# Altium schematic symbol library Analogl.SCHLIB: 110 symbols
Pins are listed as number, name and electrical type; pins without a type are passive.

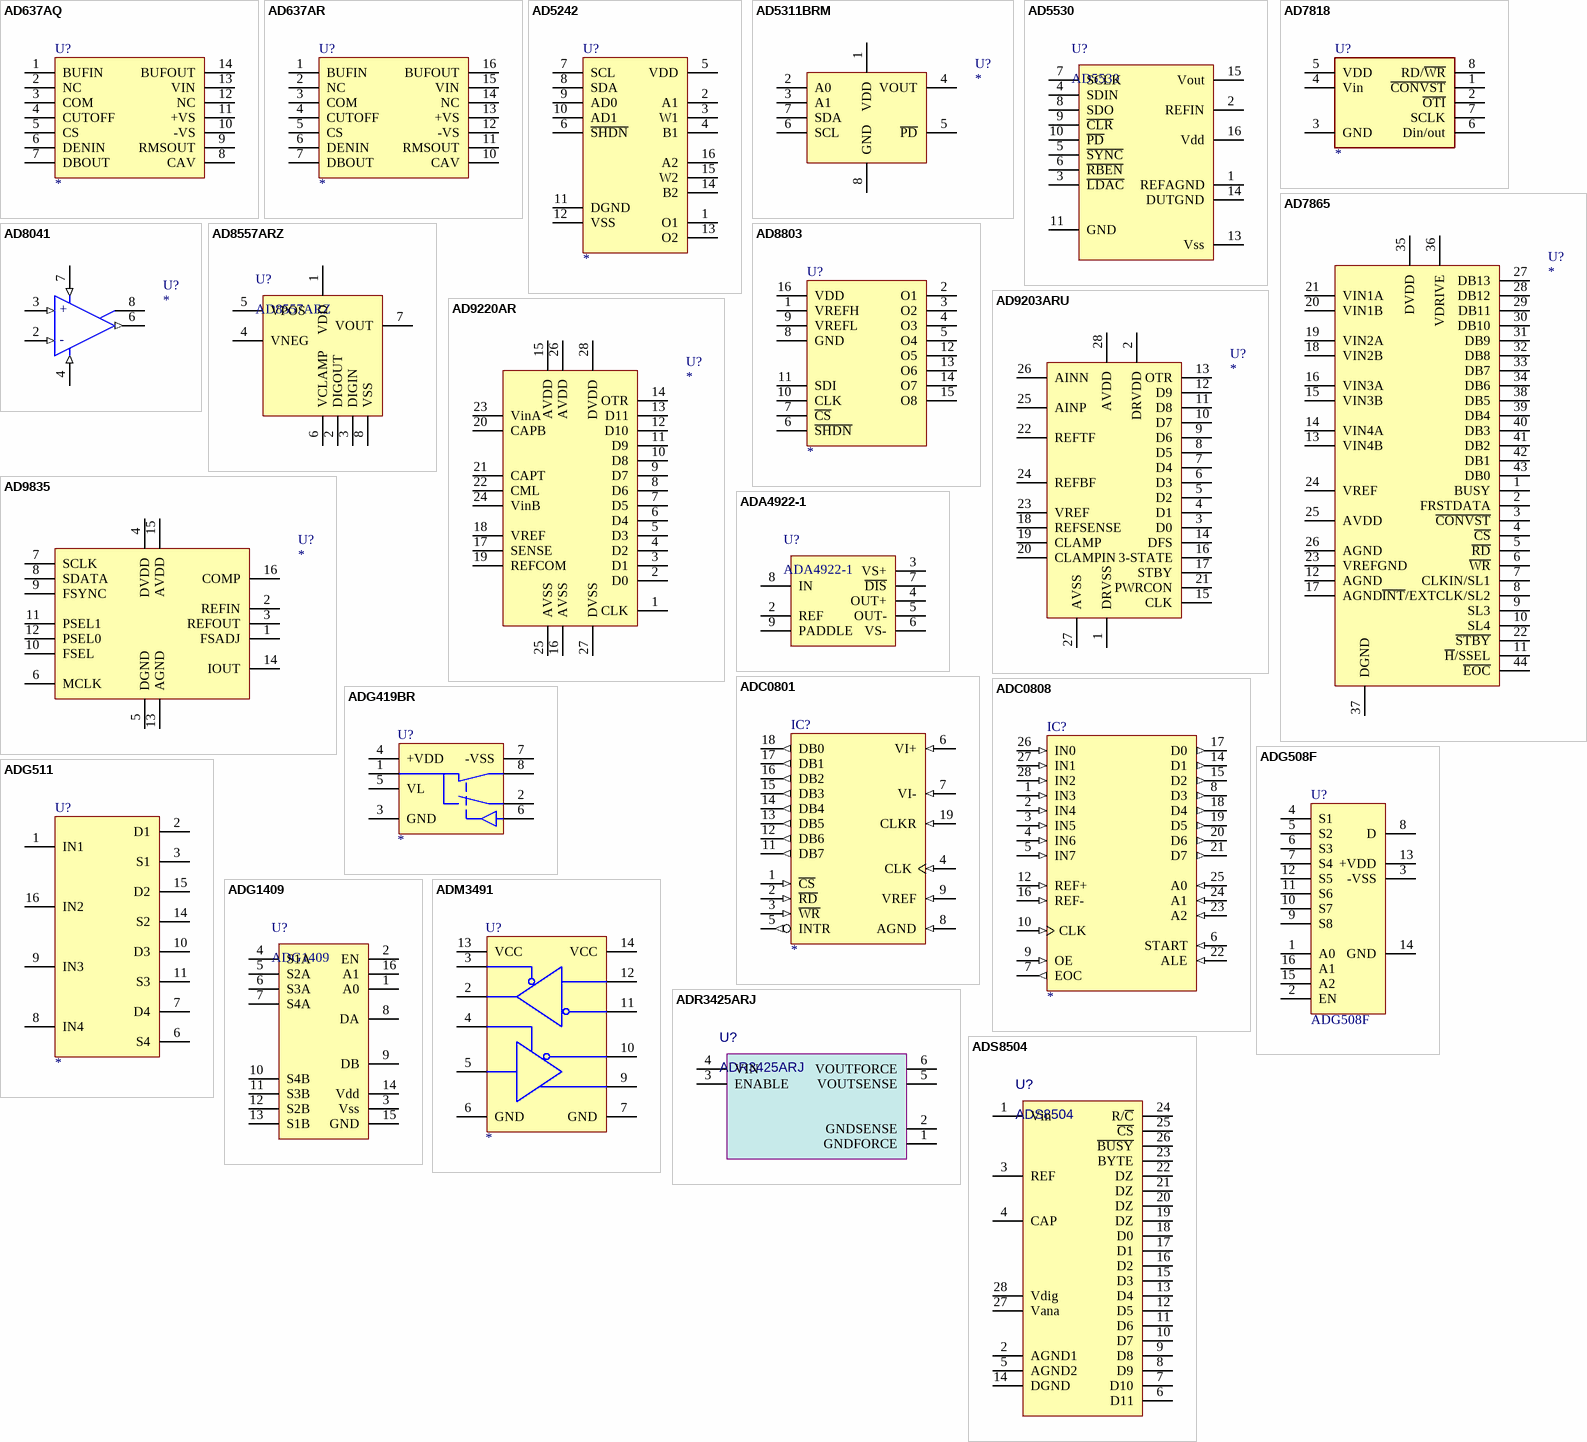
[diagram p0: symbols AD637AQ to ADS8504]

## AD637AQ
designator U?
footprint 14DIP300
pins: 1 BUFIN, 2 NC, 3 COM, 4 CUTOFF, 5 CS, 6 DENIN, 7 DBOUT, 8 CAV, 9 RMSOUT, 10 -VS, 11 +VS, 12 NC, 13 VIN, 14 BUFOUT

## AD637AR
designator U?
footprint 16SOIC300
pins: 1 BUFIN, 2 NC, 3 COM, 4 CUTOFF, 5 CS, 6 DENIN, 7 DBOUT, 10 CAV, 11 RMSOUT, 12 -VS, 13 +VS, 14 NC, 15 VIN, 16 BUFOUT

## AD5242
designator U?
footprint 16SOIC150
pins: 1 O1, 2 A1, 3 W1, 4 B1, 5 VDD, 6 ~{SHDN}, 7 SCL, 8 SDA, 9 AD0, 10 AD1, 11 DGND, 12 VSS, 13 O2, 14 B2, 15 W2, 16 A2

## AD5311BRM
designator U?
footprint 8USOIC
pins: 1 VDD, 2 A0, 3 A1, 4 VOUT, 5 ~{PD}, 6 SCL, 7 SDA, 8 GND

## AD5530
designator U?
Value: AD5530
pins: 1 REFAGND, 2 REFIN, 3 ~{LDAC}, 4 SDIN, 5 ~{SYNC}, 6 ~{RBEN}, 7 SCLK, 8 SDO, 9 ~{CLR}, 10 ~{PD}, 11 GND, 13 Vss, 14 DUTGND, 15 Vout, 16 Vdd

## AD7818
designator U?
footprint 8SOIC150
pins: 1 ~{CONVST}, 2 ~{OTI}, 3 GND, 4 Vin, 5 VDD, 6 Din/out, 7 SCLK, 8 RD/~{WR}

## AD7865
designator U?
footprint MS-026BCB
pins: 1 BUSY, 2 FRSTDATA, 3 ~{CONVST}, 4 ~{CS}, 5 ~{RD}, 6 ~{WR}, 7 CLKIN/SL1, 8 ~{INT}/EXTCLK/SL2, 9 SL3, 10 SL4, 11 ~{H}/SSEL, 12 AGND, 13 VIN4B, 14 VIN4A, 15 VIN3B, 16 VIN3A, 17 AGND, 18 VIN2B, 19 VIN2A, 20 VIN1B, 21 VIN1A, 22 ~{STBY}, 23 VREFGND, 24 VREF, 25 AVDD, 26 AGND, 27 DB13, 28 DB12, 29 DB11, 30 DB10, 31 DB9, 32 DB8, 33 DB7, 34 DB6, 35 DVDD, 36 VDRIVE, 37 DGND, 38 DB5, 39 DB4, 40 DB3, 41 DB2, 42 DB1, 43 DB0, 44 ~{EOC}

## AD8041
designator U?
footprint 8SOIC150
pins: 2 MINUS INPUT (in), 3 PLUS INPUT (in), 4 MINUS V (in), 6 OUTPUT (out), 7 PLUS V (in), 8 DISABLE
text: +; -

## AD8557ARZ
designator U?
Value: AD8557ARZ
pins: 1 VDD, 2 DIGOUT, 3 DIGIN, 4 VNEG, 5 VPOS, 6 VCLAMP, 7 VOUT, 8 VSS

## AD8803
designator U?
footprint 16DIP300
footprint 16SOIC150
pins: 1 VREFH, 2 O1, 3 O2, 4 O3, 5 O4, 6 ~{SHDN}, 7 ~{CS}, 8 GND, 9 VREFL, 10 CLK, 11 SDI, 12 O5, 13 O6, 14 O7, 15 O8, 16 VDD

## AD9203ARU
designator U?
footprint MO-153AE
pins: 1 DRVSS, 2 DRVDD, 3 D0, 4 D1, 5 D2, 6 D3, 7 D4, 8 D5, 9 D6, 10 D7, 11 D8, 12 D9, 13 OTR, 14 DFS, 15 CLK, 16 3-STATE, 17 STBY, 18 REFSENSE, 19 CLAMP, 20 CLAMPIN, 21 PWRCON, 22 REFTF, 23 VREF, 24 REFBF, 25 AINP, 26 AINN, 27 AVSS, 28 AVDD

## AD9220AR
designator U?
footprint 28SOIC300
pins: 1 CLK, 2 D0, 3 D1, 4 D2, 5 D3, 6 D4, 7 D5, 8 D6, 9 D7, 10 D8, 11 D9, 12 D10, 13 D11, 14 OTR, 15 AVDD, 16 AVSS, 17 SENSE, 18 VREF, 19 REFCOM, 20 CAPB, 21 CAPT, 22 CML, 23 VinA, 24 VinB, 25 AVSS, 26 AVDD, 27 DVSS, 28 DVDD

## AD9835
designator U?
pins: 1 FSADJ, 2 REFIN, 3 REFOUT, 4 DVDD, 5 DGND, 6 MCLK, 7 SCLK, 8 SDATA, 9 FSYNC, 10 FSEL, 11 PSEL1, 12 PSEL0, 13 AGND, 14 IOUT, 15 AVDD, 16 COMP

## ADA4922-1
designator U?
Value: ADA4922-1
pins: 2 REF, 3 VS+, 4 OUT+, 5 OUT-, 6 VS-, 7 ~{DIS}, 8 IN, 9 PADDLE

## ADC0801
designator IC?
pins: 1 ~{CS} (in), 2 ~{RD} (in), 3 ~{WR} (in), 4 CLK (in), 5 INTR (out), 6 VI+ (in), 7 VI- (in), 8 AGND (in), 9 VREF (in), 10 GND (power) hidden to GND, 11 DB7 (out), 12 DB6 (out), 13 DB5 (out), 14 DB4 (out), 15 DB3 (out), 16 DB2 (out), 17 DB1 (out), 18 DB0 (out), 19 CLKR (in), 20 VCC (power) hidden to VCC

## ADC0808
designator IC?
pins: 1 IN3 (in), 2 IN4 (in), 3 IN5 (in), 4 IN6 (in), 5 IN7 (in), 6 START (in), 7 EOC (out), 8 D3 (out), 9 OE (in), 10 CLK (in), 11 VCC (power) hidden to VCC, 12 REF+ (in), 13 GND (power) hidden to GND, 14 D1 (out), 15 D2 (out), 16 REF- (in), 17 D0 (out), 18 D4 (out), 19 D5 (out), 20 D6 (out), 21 D7 (out), 22 ALE (in), 23 A2 (in), 24 A1 (in), 25 A0 (in), 26 IN0 (in), 27 IN1 (in), 28 IN2 (in)

## ADG419BR
designator U?
footprint 8SOIC150
pins: 1 D, 2 S1, 3 GND, 4 +VDD, 5 VL, 6 IN, 7 -VSS, 8 S2

## ADG508F
designator U?
Value: ADG508F
pins: 1 A0, 2 EN, 3 -VSS, 4 S1, 5 S2, 6 S3, 7 S4, 8 D, 9 S8, 10 S7, 11 S6, 12 S5, 13 +VDD, 14 GND, 15 A2, 16 A1

## ADG511
designator U?
footprint 16DIP300
footprint 16SOIC150
pins: 1 IN1, 2 D1, 3 S1, 6 S4, 7 D4, 8 IN4, 9 IN3, 10 D3, 11 S3, 14 S2, 15 D2, 16 IN2

## ADG1409
designator U?
Value: ADG1409
pins: 1 A0, 2 EN, 3 Vss, 4 S1A, 5 S2A, 6 S3A, 7 S4A, 8 DA, 9 DB, 10 S4B, 11 S3B, 12 S2B, 13 S1B, 14 Vdd, 15 GND, 16 A1

## ADM3491
designator U?
footprint 14SOIC150
pins: 2 RCVOUT, 3 RCVEN, 4 DRVEN, 5 DRVIN, 6 GND, 7 GND, 9 DRVOUTP, 10 DRVOUTM, 11 RCVINM, 12 RCVINP, 13 VCC, 14 VCC

## ADR3425ARJ
designator U?
Value: ADR3425ARJ
pins: 1 GNDFORCE, 2 GNDSENSE, 3 ENABLE, 4 VIN, 5 VOUTSENSE, 6 VOUTFORCE

## ADS8504
designator U?
Value: ADS8504
pins: 1 Vin, 2 AGND1, 3 REF, 4 CAP, 5 AGND2, 6 D11, 7 D10, 8 D9, 9 D8, 10 D7, 11 D6, 12 D5, 13 D4, 14 DGND, 15 D3, 16 D2, 17 D1, 18 D0, 19 DZ, 20 DZ, 21 DZ, 22 DZ, 23 BYTE, 24 R/~{C}, 25 ~{CS}, 26 ~{BUSY}, 27 Vana, 28 Vdig

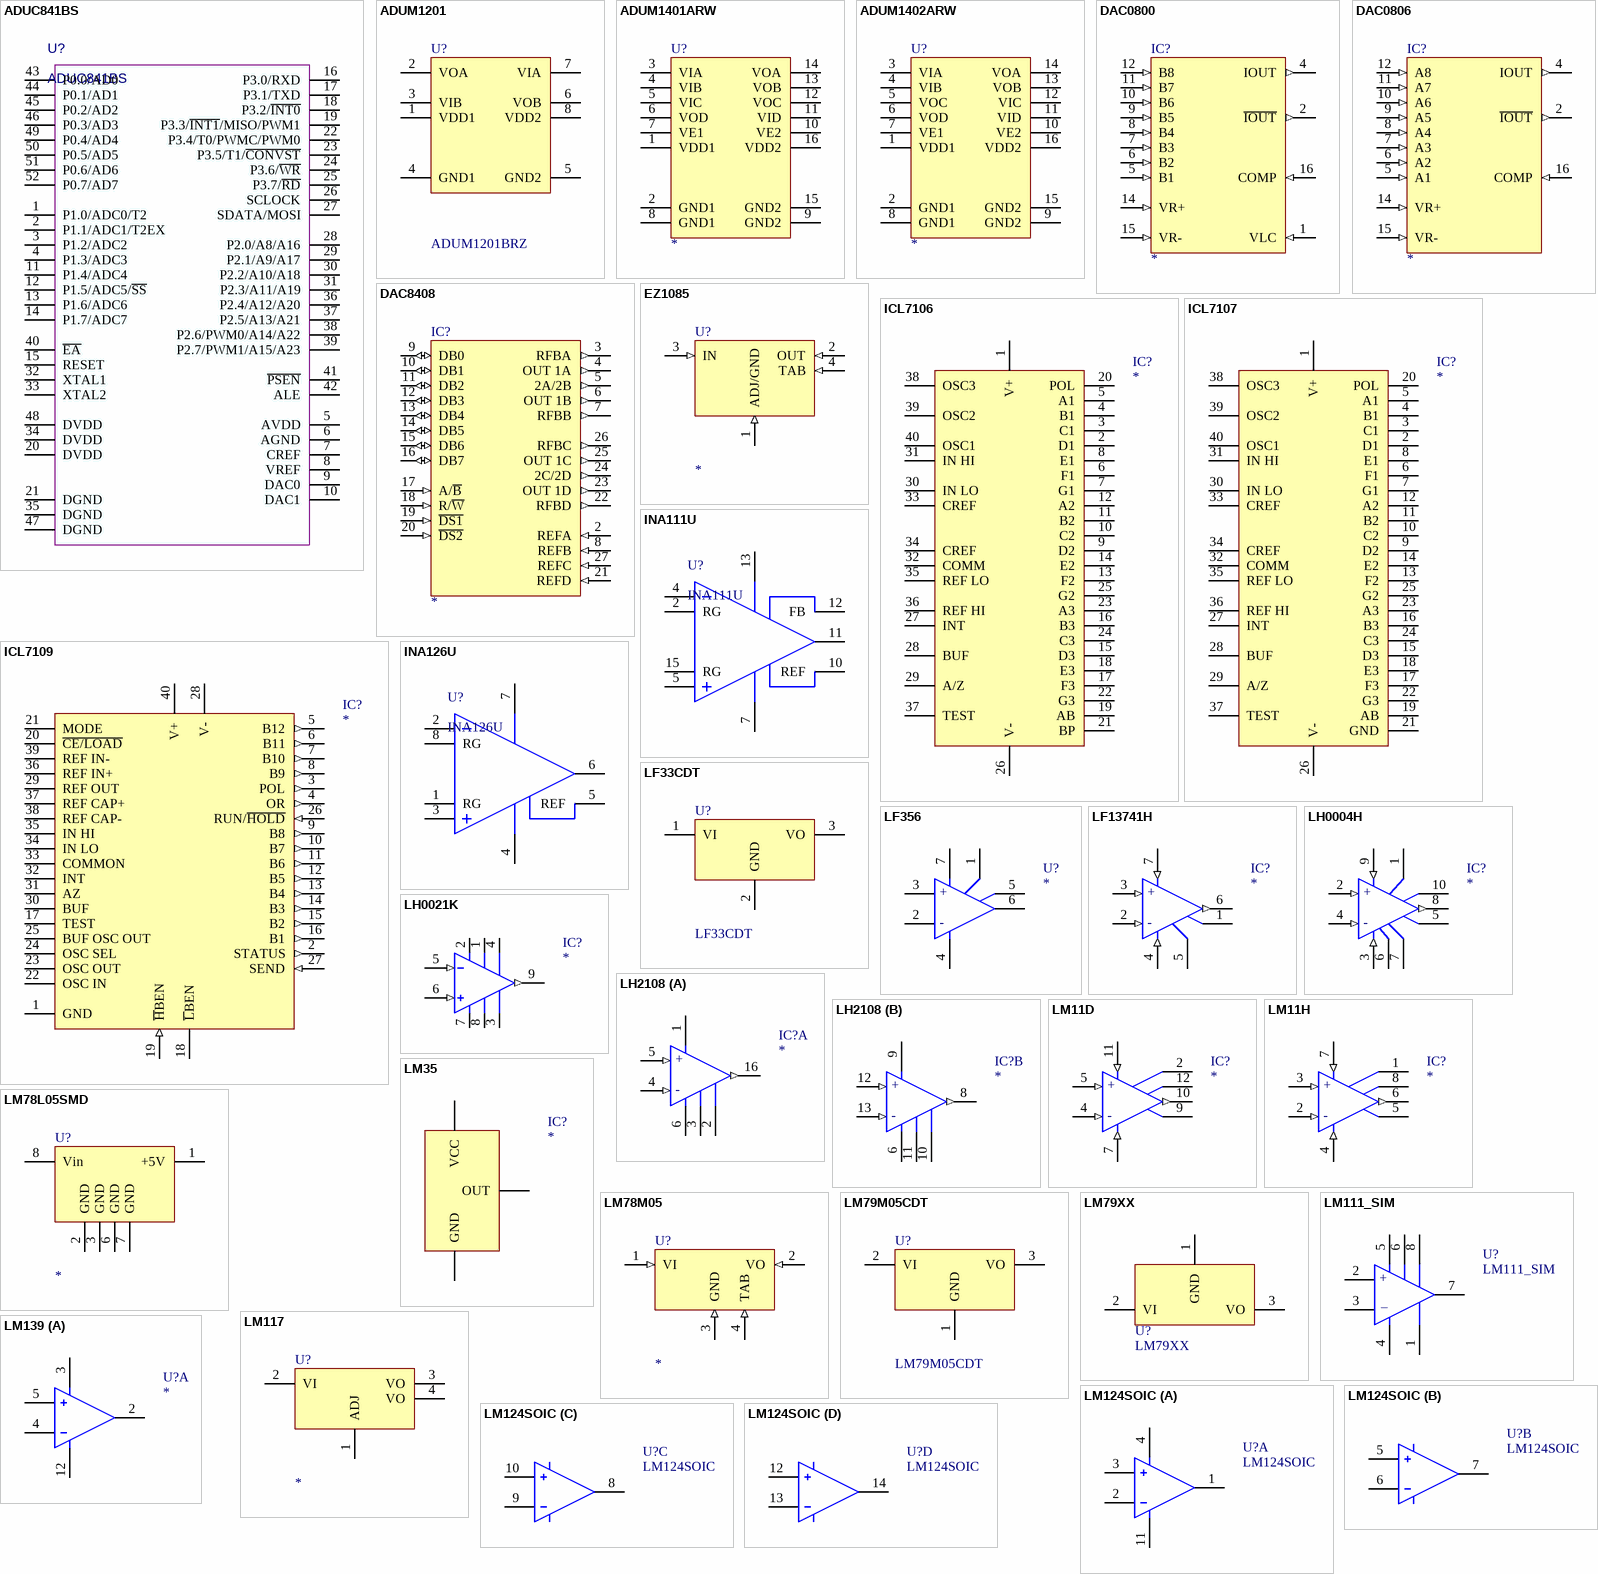
[diagram p1: symbols ADUC841BS to LM139]

## ADUC841BS
designator U?
Value: ADUC841BS
pins: 1 P1.0/ADC0/T2, 2 P1.1/ADC1/T2EX, 3 P1.2/ADC2, 4 P1.3/ADC3, 5 AVDD, 6 AGND, 7 CREF, 8 VREF, 9 DAC0, 10 DAC1, 11 P1.4/ADC4, 12 P1.5/ADC5/~{SS}, 13 P1.6/ADC6, 14 P1.7/ADC7, 15 RESET, 16 P3.0/RXD, 17 P3.1/TXD, 18 P3.2/~{INT0}, 19 P3.3/~{INT1}/MISO/PWM1, 20 DVDD, 21 DGND, 22 P3.4/T0/PWMC/PWM0, 23 P3.5/T1/~{CONVST}, 24 P3.6/~{WR}, 25 P3.7/~{RD}, 26 SCLOCK, 27 SDATA/MOSI, 28 P2.0/A8/A16, 29 P2.1/A9/A17, 30 P2.2/A10/A18, 31 P2.3/A11/A19, 32 XTAL1, 33 XTAL2, 34 DVDD, 35 DGND, 36 P2.4/A12/A20, 37 P2.5/A13/A21, 38 P2.6/PWM0/A14/A22, 39 P2.7/PWM1/A15/A23, 40 ~{EA}, 41 ~{PSEN}, 42 ALE, 43 P0.0/AD0, 44 P0.1/AD1, 45 P0.2/AD2, 46 P0.3/AD3, 47 DGND, 48 DVDD, 49 P0.4/AD4, 50 P0.5/AD5, 51 P0.6/AD6, 52 P0.7/AD7

## ADUM1201
designator U?, comment ADUM1201BRZ
Value: ADUM1201BRZ
pins: 1 VDD1, 2 VOA, 3 VIB, 4 GND1, 5 GND2, 6 VOB, 7 VIA, 8 VDD2

## ADUM1401ARW
designator U?
footprint 16SOIC300
pins: 1 VDD1, 2 GND1, 3 VIA, 4 VIB, 5 VIC, 6 VOD, 7 VE1, 8 GND1, 9 GND2, 10 VE2, 11 VID, 12 VOC, 13 VOB, 14 VOA, 15 GND2, 16 VDD2

## ADUM1402ARW
designator U?
footprint 16SOIC300
pins: 1 VDD1, 2 GND1, 3 VIA, 4 VIB, 5 VOC, 6 VOD, 7 VE1, 8 GND1, 9 GND2, 10 VE2, 11 VID, 12 VIC, 13 VOB, 14 VOA, 15 GND2, 16 VDD2

## DAC0800
designator IC?
pins: 1 VLC (in), 2 ~{IOUT} (out), 3 V- (power) hidden to V-, 4 IOUT (out), 5 B1 (in), 6 B2 (in), 7 B3 (in), 8 B4 (in), 9 B5 (in), 10 B6 (in), 11 B7 (in), 12 B8 (in), 13 V+ (power) hidden to V+, 14 VR+ (in), 15 VR- (in), 16 COMP (in)

## DAC0806
designator IC?
pins: 2 ~{IOUT} (out), 3 V- (power) hidden to V-, 4 IOUT (out), 5 A1 (in), 6 A2 (in), 7 A3 (in), 8 A4 (in), 9 A5 (in), 10 A6 (in), 11 A7 (in), 12 A8 (in), 13 V+ (power) hidden to V+, 14 VR+ (in), 15 VR- (in), 16 COMP (in)

## DAC8408
designator IC?
pins: 1 VDD (power) hidden to VDD, 2 REFA (in), 3 RFBA (out), 4 OUT 1A (out), 5 2A/2B (out), 6 OUT 1B (out), 7 RFBB (out), 8 REFB (in), 9 DB0 (io), 10 DB1 (io), 11 DB2 (io), 12 DB3 (io), 13 DB4 (io), 14 DB5 (io), 15 DB6 (io), 16 DB7 (io), 17 A/~{B} (in), 18 R/~{W} (in), 19 ~{DS1} (in), 20 ~{DS2} (in), 21 REFD (in), 22 RFBD (out), 23 OUT 1D (out), 24 2C/2D (out), 25 OUT 1C (out), 26 RFBC (out), 27 REFC (in), 28 GND (power) hidden to GND

## EZ1085
designator U?
footprint TO-220H
pins: 1 ADJ/GND (in), 2 OUT (in), 3 IN (in), 4 TAB (in)

## ICL7106
designator IC?
pins: 1 V+, 2 D1, 3 C1, 4 B1, 5 A1, 6 F1, 7 G1, 8 E1, 9 D2, 10 C2, 11 B2, 12 A2, 13 F2, 14 E2, 15 D3, 16 B3, 17 F3, 18 E3, 19 AB, 20 POL, 21 BP, 22 G3, 23 A3, 24 C3, 25 G2, 26 V-, 27 INT, 28 BUF, 29 A/Z, 30 IN LO, 31 IN HI, 32 COMM, 33 CREF, 34 CREF, 35 REF LO, 36 REF HI, 37 TEST, 38 OSC3, 39 OSC2, 40 OSC1

## ICL7107
designator IC?
pins: 1 V+, 2 D1, 3 C1, 4 B1, 5 A1, 6 F1, 7 G1, 8 E1, 9 D2, 10 C2, 11 B2, 12 A2, 13 F2, 14 E2, 15 D3, 16 B3, 17 F3, 18 E3, 19 AB, 20 POL, 21 GND, 22 G3, 23 A3, 24 C3, 25 G2, 26 V-, 27 INT, 28 BUF, 29 A/Z, 30 IN LO, 31 IN HI, 32 COMM, 33 CREF, 34 CREF, 35 REF LO, 36 REF HI, 37 TEST, 38 OSC3, 39 OSC2, 40 OSC1

## ICL7109
designator IC?
pins: 1 GND, 2 STATUS (out), 3 POL (out), 4 OR (out), 5 B12 (out), 6 B11 (out), 7 B10 (out), 8 B9 (out), 9 B8 (out), 10 B7 (out), 11 B6 (out), 12 B5 (out), 13 B4 (out), 14 B3 (out), 15 B2 (out), 16 B1 (out), 17 TEST, 18 ~{L}BEN, 19 ~{H}BEN (in), 20 ~{CE/LOAD}, 21 MODE, 22 OSC IN, 23 OSC OUT, 24 OSC SEL, 25 BUF OSC OUT, 26 RUN/~{HOLD} (in), 27 SEND (in), 28 V-, 29 REF OUT, 30 BUF, 31 AZ, 32 INT, 33 COMMON, 34 IN LO, 35 IN HI, 36 REF IN+, 37 REF CAP+, 38 REF CAP-, 39 REF IN-, 40 V+

## INA111U
designator U?
Value: INA111U
pins: 2 RG, 4 Vin-, 5 Vin+, 7 Vs-, 10 REF, 11 Vout, 12 FB, 13 Vs+, 15 RG

## INA126U
designator U?
Value: INA126U
pins: 1 RG, 2 Vin-, 3 Vin+, 4 Vs-, 5 REF, 6 Vout, 7 Vs+, 8 RG

## LF33CDT
designator U?
3.3V Voltage Regulator; Mfr_Typ1: *; Mfr_Typ2: *; Mfr_Typ3: *; Price1: *; Price2: *; Price3: *; Reference1: *; Reference2: *; Reference3: *; Supplier1: *; Supplier2: *; Supplier3: *; Value: LF33CDT
footprint TO-252
pins: 1 VI, 2 GND, 3 VO

## LF356
designator U?
footprint 8SOIC150
simulation model LF356/NS (//////////////////////////////////////////////////////////)
pins: 1 BALANCE 1, 2 MINUS INPUT, 3 PLUS INPUT, 4 MINUS V, 5 BALANCE 2, 6 OUTPUT, 7 PLUS V
1 alternate drawing of the same symbol
text: +; -

## LF13741H
designator IC?
pins: 1 BALANCE 1, 2 MINUS INPUT (in), 3 PLUS INPUT (in), 4 MINUS V (in), 5 BALANCE 2, 6 OUTPUT (out), 7 PLUS V (in)
text: +; -

## LH0004H
designator IC?
pins: 1 COMPENSATION 1, 2 PLUS INPUT (in), 3 MINUS V (in), 4 MINUS INPUT (in), 5 COMPENSATION 2, 6 BIAS 1, 7 BIAS 2, 8 OUTPUT (out), 9 PLUS V (in), 10 COMPENSATION 3
text: +; -

## LH0021K
designator IC?
pins: 1 SC+, 2 V+, 3 GND, 4 COMP, 5 INV INPUT (in), 6 NON-INV INPUT (in), 7 V-, 8 SC-, 9 OUTPUT (out)

## LH2108
designator IC?
pins on every part: 6 MINUS V
part A pins: 1 PLUS V, 2 ON2, 3 ON1, 4 MINUS INPUT (in), 5 PLUS INPUT (in), 16 OUTPUT (out)
part B pins: 8 OUTPUT (out), 9 PLUS V, 10 ON2, 11 ON1, 12 PLUS INPUT (in), 13 MINUS INPUT (in)
part A text: +; -
part B text: +; -

## LM11D
designator IC?
pins: 2 BALANCE 1, 4 MINUS INPUT (in), 5 PLUS INPUT (in), 7 MINUS V (in), 9 COMPENSATION 1, 10 OUTPUT (out), 11 PLUS V (in), 12 BALANCE 2
text: +; -

## LM11H
designator IC?
pins: 1 BALANCE 1, 2 MINUS INPUT (in), 3 PLUS INPUT (in), 4 MINUS V (in), 5 COMPENSATION 1, 6 OUTPUT (out), 7 PLUS V (in), 8 BALANCE 2
text: +; -

## LM35
designator IC?
pins: GND, OUT, VCC

## LM78L05SMD
designator U?
3 terminal Voltage stabilizator +5V
footprint 8SOIC150
pins: 1 +5V, 2 GND, 3 GND, 6 GND, 7 GND, 8 Vin

## LM78M05
designator U?
footprint DPAK
pins: 1 VI (in), 2 VO (in), 3 GND (in), 4 TAB (in)

## LM79M05CDT
designator U?
Value: LM79M05CDT
pins: 1 GND, 2 VI, 3 VO

## LM79XX
designator U?
Value: LM79XX
pins: 1 GND, 2 VI, 3 VO

## LM111_SIM
designator U?
Value: LM111_SIM
footprint 8SOIC150
simulation model LM111/NS (LM111 Voltage Comparator)
pins: 1 GROUND, 2 IN+, 3 IN-, 4 V-, 5 BALANCE, 6 BAL/STRB, 7 OUTPUT, 8 V+
1 alternate drawing of the same symbol
text: +; _

## LM117
designator U?
pins: 1 ADJ, 2 VI, 3 VO, 4 VO

## LM124SOIC
designator U?
Value: LM124SOIC
footprint 14SOIC150
part A pins: 1 OUTPUT, 2 MINUS INPUT, 3 PLUS INPUT, 4 PLUS V, 11 MINUS V
part B pins: 5 PLUS INPUT, 6 MINUS INPUT, 7 OUTPUT
part C pins: 8 OUTPUT, 9 MINUS INPUT, 10 PLUS INPUT
part D pins: 12 PLUS INPUT, 13 MINUS INPUT, 14 OUTPUT
1 alternate drawing of the same symbol

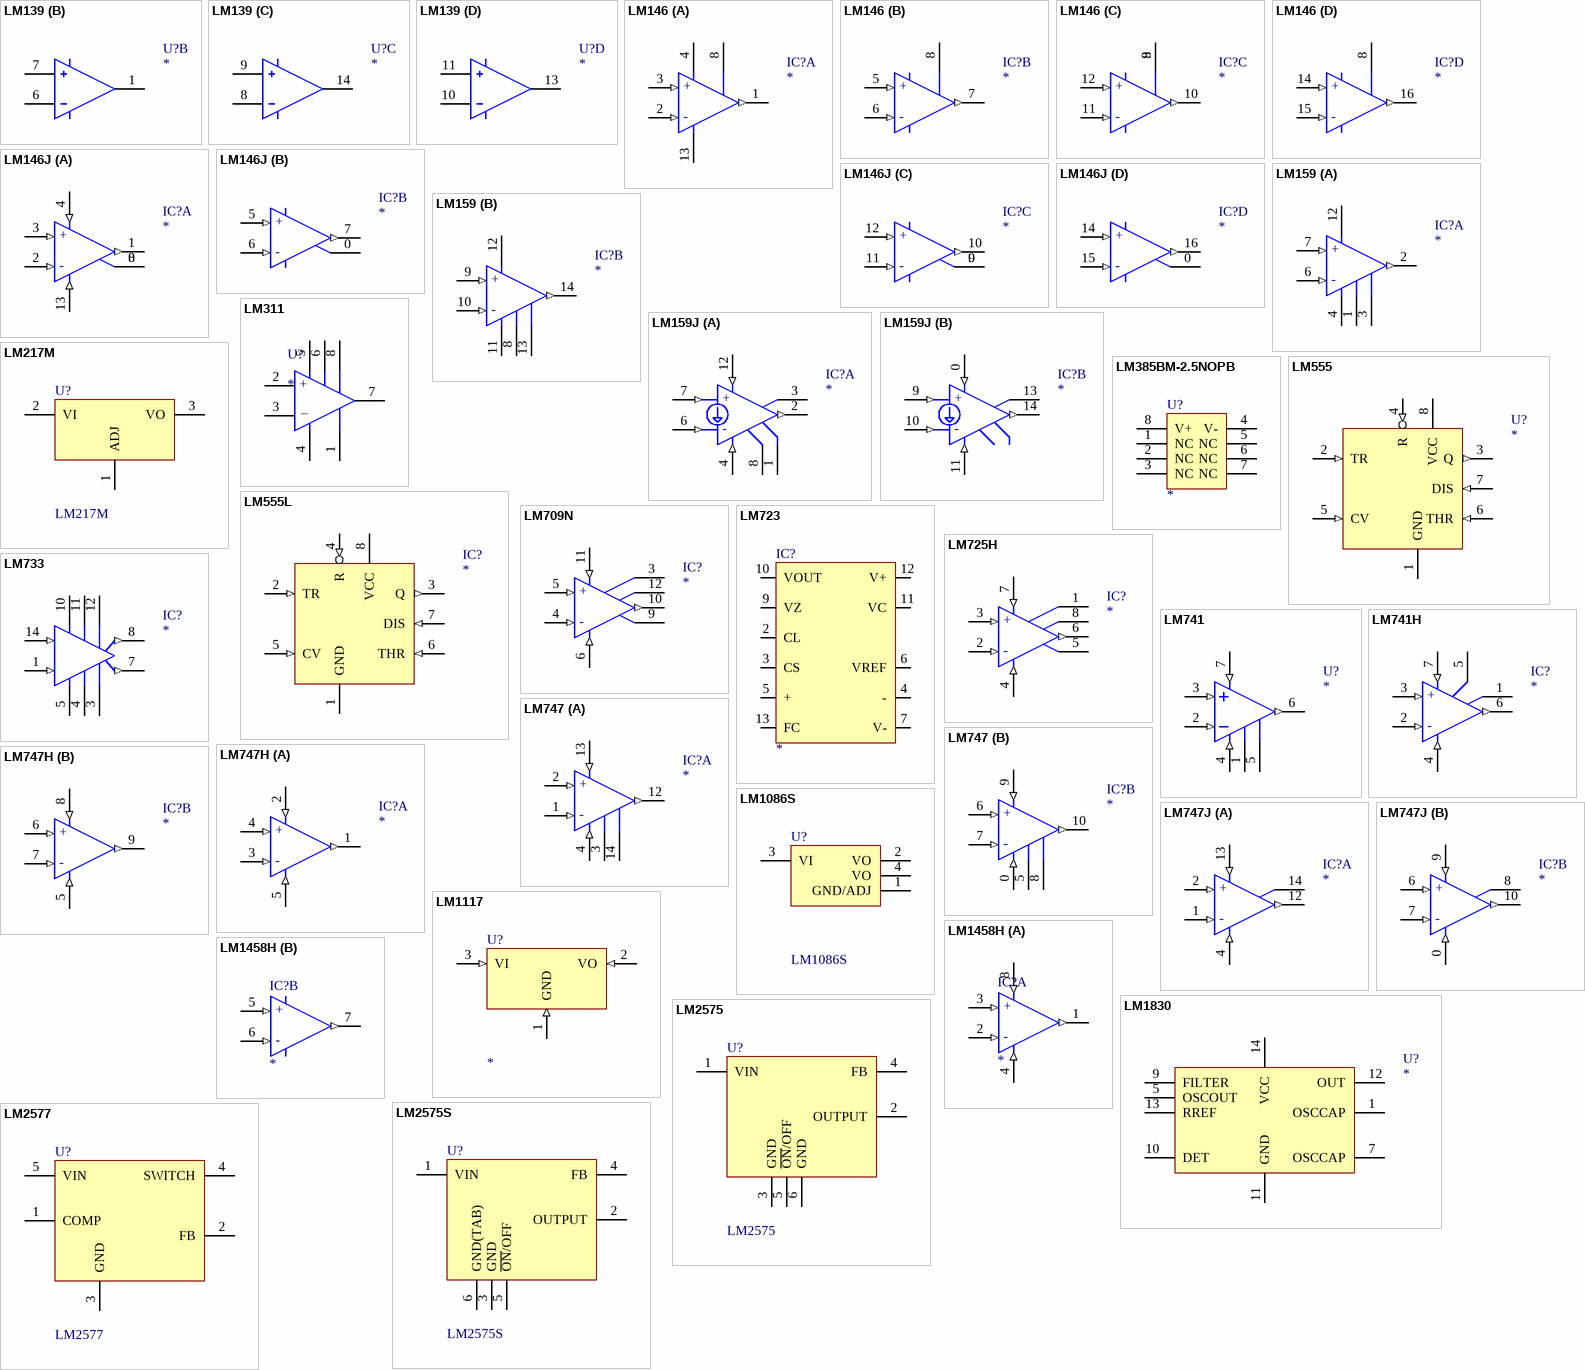
[diagram p2: symbols LM139 to LM2577]

## LM139
designator U?
footprint 14DIP300
footprint 14SOIC150
part A pins: 2 OUTPUT, 3 PLUS V (power), 4 MINUS INPUT, 5 PLUS INPUT, 12 MINUS V (power)
part B pins: 1 OUTPUT, 6 MINUS INPUT, 7 PLUS INPUT
part C pins: 8 MINUS INPUT, 9 PLUS INPUT, 14 OUTPUT
part D pins: 10 MINUS INPUT, 11 PLUS INPUT, 13 OUTPUT
1 alternate drawing of the same symbol

## LM146
designator IC?
pins on every part: 8 ON
part A pins: 1 OUTPUT (out), 2 MINUS INPUT (in), 3 PLUS INPUT (in), 4 PLUS V, 13 MINUS V
part B pins: 5 PLUS INPUT (in), 6 MINUS INPUT (in), 7 OUTPUT (out)
part C pins: 9 ON, 10 OUTPUT (out), 11 MINUS INPUT (in), 12 PLUS INPUT (in)
part D pins: 14 PLUS INPUT (in), 15 MINUS INPUT (in), 16 OUTPUT (out)
part A text: +; -
part B text: +; -
part C text: +; -
part D text: +; -

## LM146J
designator IC?
pins on every part: 0 SET
part A pins: 1 OUTPUT (out), 2 MINUS INPUT (in), 3 PLUS INPUT (in), 4 PLUS V (in), 8 SET, 13 MINUS V (in)
part B pins: 5 PLUS INPUT (in), 6 MINUS INPUT (in), 7 OUTPUT (out)
part C pins: 9 SET, 10 OUTPUT (out), 11 MINUS INPUT (in), 12 PLUS INPUT (in)
part D pins: 14 PLUS INPUT (in), 15 MINUS INPUT (in), 16 OUTPUT (out)
part A text: +; -
part B text: +; -
part C text: +; -
part D text: +; -

## LM159
designator IC?
pins on every part: 12 PLUS V
part A pins: 1 ON1, 2 OUTPUT (out), 3 ON2, 4 MINUS V, 6 MINUS INPUT (in), 7 PLUS INPUT (in)
part B pins: 8 ON1, 9 PLUS INPUT (in), 10 MINUS INPUT (in), 11 MINUS V, 13 ON2, 14 OUTPUT (out)
part A text: +; -
part B text: +; -

## LM159J
designator IC?
part A pins: 1 ISET (OUT), 2 VOUT (out), 3 COMPENSATION, 4 GND (in), 6 MINUS INPUT (in), 7 PLUS INPUT (in), 8 ISET (IN), 12 PLUS V (in)
part B pins: 0 PLUS V (in), 9 PLUS INPUT (in), 10 MINUS INPUT (in), 11 GND (in), 13 COMPENSATION, 14 VOUT (out)
part A text: +; -
part B text: +; -

## LM217M
designator U?
Value: LM217M
pins: 1 ADJ, 2 VI, 3 VO

## LM311
designator U?
footprint 8SOIC150
pins: 1 GROUND, 2 IN+, 3 IN-, 4 V-, 5 BALANCE, 6 BAL/STRB, 7 OUTPUT, 8 V+
1 alternate drawing of the same symbol
text: +; _

## LM385BM-2.5NOPB
designator U?
footprint 8SOIC150
pins: 1 NC, 2 NC, 3 NC, 4 V-, 5 NC, 6 NC, 7 NC, 8 V+

## LM555
designator U?
footprint 8DIP300
footprint 8SOIC150
pins: 1 GND (power), 2 TR (in), 3 Q (out), 4 R (in), 5 CV (in), 6 THR (in), 7 DIS (in), 8 VCC (power)

## LM555L
designator IC?
pins: 1 GND, 2 TR (in), 3 Q (out), 4 R (in), 5 CV (in), 6 THR (in), 7 DIS (in), 8 VCC

## LM709N
designator IC?
pins: 3 FIN COMPENSATIO, 4 MINUS INPUT (in), 5 PLUS INPUT (in), 6 MINUS V (in), 9 FOUT COMPENSATI, 10 OUTPUT (out), 11 PLUS V (in), 12 FIN COMPENSATIO
text: +; -

## LM723
designator IC?
pins: 2 CL, 3 CS, 4 -, 5 +, 6 VREF, 7 V-, 9 VZ, 10 VOUT, 11 VC, 12 V+, 13 FC

## LM725H
designator IC?
pins: 1 OFFSET NULL 1, 2 MINUS INPUT (in), 3 PLUS INPUT (in), 4 MINUS V (in), 5 COMPENSATION, 6 OUTPUT (out), 7 PLUS V (in), 8 OFFSET NULL 1
text: +; -

## LM733
designator IC?
pins: 1 I2 (in), 3 G2B, 4 G1B, 5 V-, 7 OUT2 (out), 8 OUT1 (out), 10 V+, 11 G1A, 12 G2A, 14 I1 (in)
1 alternate drawing of the same symbol

## LM741
designator U?
footprint 8DIP300
footprint 8SOIC150
pins: 1 ON, 2 - (in), 3 + (in), 4 V- (in), 5 ON, 6 O (out), 7 V+ (in)
1 alternate drawing of the same symbol

## LM741H
designator IC?
pins: 1 OFFSET NULL 1, 2 MINUS INPUT (in), 3 PLUS INPUT (in), 4 MINUS V (in), 5 OFFSET NULL 2, 6 OUTPUT (out), 7 PLUS V (in)
text: +; -

## LM747
designator IC?
part A pins: 1 - (in), 2 + (in), 3 ON, 4 V- (in), 12 O (out), 13 V+ (in), 14 ON
part B pins: 0 V- (in), 5 ON, 6 + (in), 7 - (in), 8 ON, 9 V+ (in), 10 O (out)
1 alternate drawing of the same symbol

## LM747H
designator IC?
pins on every part: 5 MINUS V (in)
part A pins: 1 OUTPUT (out), 2 PLUS V (in), 3 MINUS INPUT (in), 4 PLUS INPUT (in)
part B pins: 6 PLUS INPUT (in), 7 MINUS INPUT (in), 8 PLUS V (in), 9 OUTPUT (out)
part A text: +; -
part B text: +; -

## LM747J
designator IC?
part A pins: 1 MINUS INPUT (in), 2 PLUS INPUT (in), 4 MINUS V (in), 12 OUTPUT (out), 13 PLUS V (in), 14 OFFSET NULL A/B
part B pins: 0 MINUS V (in), 6 PLUS INPUT (in), 7 MINUS INPUT (in), 8 OFFSET NULL A/B, 9 PLUS V (in), 10 OUTPUT (out)
part A text: +; -
part B text: +; -

## LM1086S
designator U?
Value: LM1086S
pins: 1 GND/ADJ, 2 VO, 3 VI, 4 VO

## LM1117
designator U?
footprint TO-252
pins: 1 GND (in), 2 VO (in), 3 VI (in)

## LM1458H
designator IC?
part A pins: 1 OUTPUT (out), 2 MINUS INPUT (in), 3 PLUS INPUT (in), 4 MINUS V (in), 8 PLUS V (in)
part B pins: 5 PLUS INPUT (in), 6 MINUS INPUT (in), 7 OUTPUT (out)
part A text: +; -
part B text: +; -

## LM1830
designator U?
pins: 1 OSCCAP, 5 OSCOUT, 7 OSCCAP, 9 FILTER, 10 DET, 11 GND, 12 OUT, 13 RREF, 14 VCC

## LM2575
designator U?
Value: LM2575
pins: 1 VIN, 2 OUTPUT, 3 GND, 4 FB, 5 ~{ON}/OFF, 6 GND

## LM2575S
designator U?
Value: LM2575S
footprint TO-263-5
pins: 1 VIN, 2 OUTPUT, 3 GND, 4 FB, 5 ~{ON}/OFF, 6 GND(TAB)

## LM2577
designator U?
Value: LM2577
pins: 1 COMP, 2 FB, 3 GND, 4 SWITCH, 5 VIN

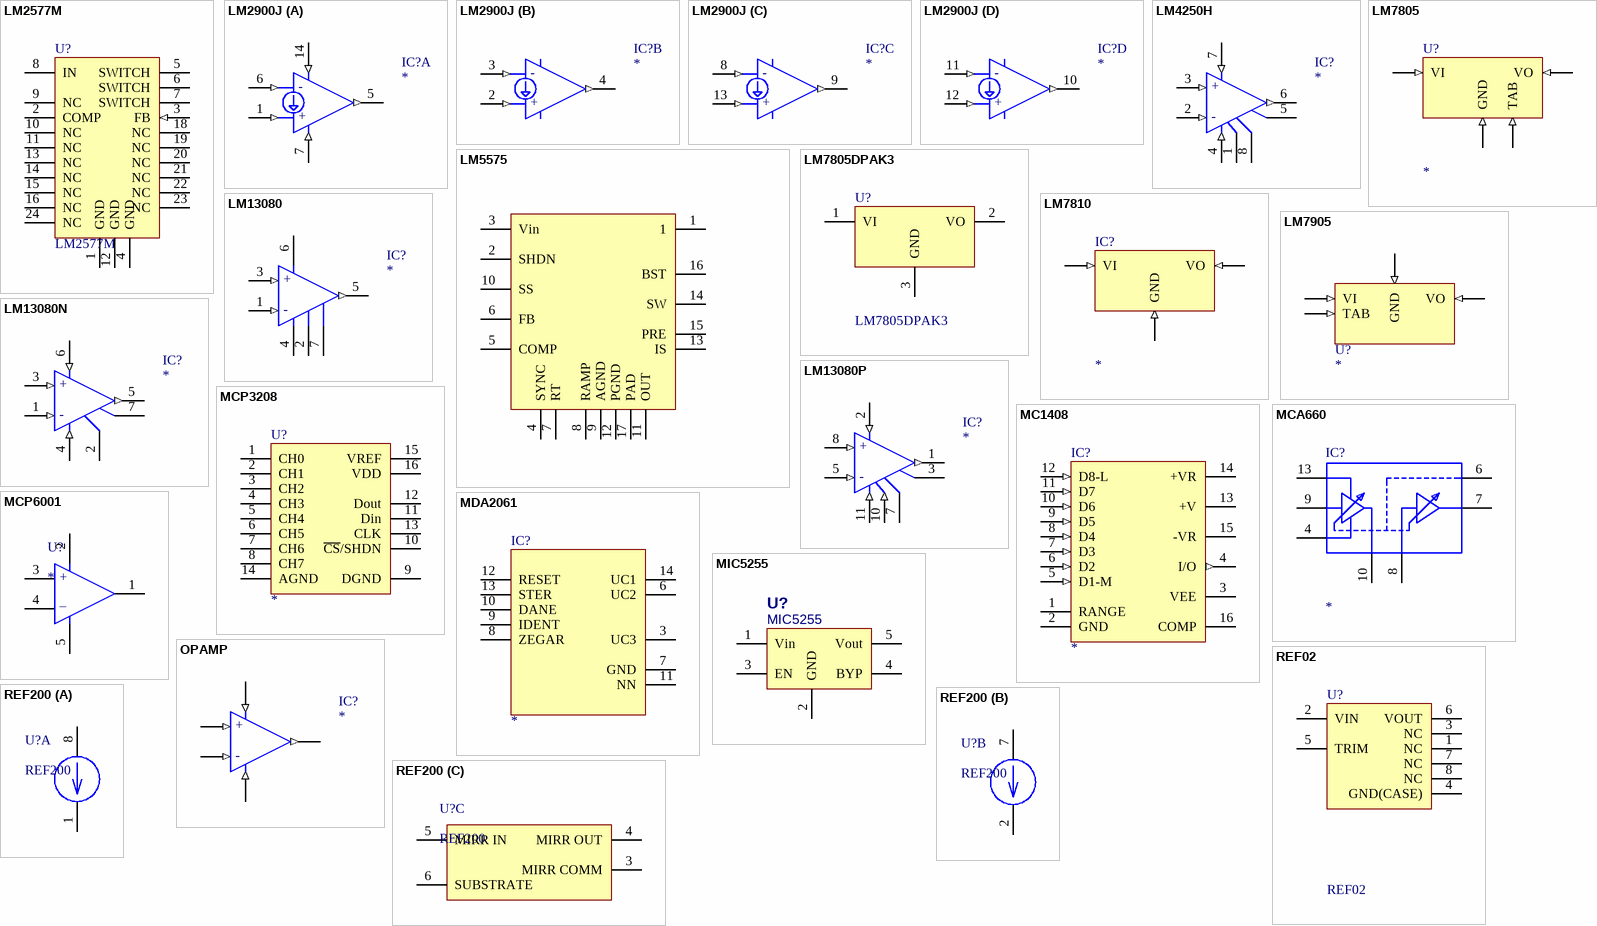
[diagram p3: symbols LM2577M to REF200]

## LM2577M
designator U?
SERIES SIMPLE SWITCHER STEP-UP VOLTAGE REGULATOR; Value: LM2577M
pins: 1 GND, 2 COMP, 3 FB (in), 4 GND, 5 SWITCH (power), 6 SWITCH (power), 7 SWITCH (power), 8 IN (power), 9 NC, 10 NC, 11 NC, 12 GND, 13 NC, 14 NC, 15 NC, 16 NC, 18 NC, 19 NC, 20 NC, 21 NC, 22 NC, 23 NC, 24 NC

## LM2900J
designator IC?
part A pins: 1 PLUS INPUT (in), 5 OUTPUT (out), 6 MINUS INPUT (in), 7 GND (in), 14 PLUS V (in)
part B pins: 2 PLUS INPUT (in), 3 MINUS INPUT (in), 4 OUTPUT (out)
part C pins: 8 MINUS INPUT (in), 9 OUTPUT (out), 13 PLUS INPUT (in)
part D pins: 10 OUTPUT (out), 11 MINUS INPUT (in), 12 PLUS INPUT (in)
part A text: -; +
part B text: -; +
part C text: -; +
part D text: -; +

## LM4250H
designator IC?
pins: 1 OFFSET NULL 1, 2 MINUS INPUT (in), 3 PLUS INPUT (in), 4 MINUS V (in), 5 OFFSET NULL 2, 6 OUTPUT (out), 7 PLUS V (in), 8 I SET
text: +; -

## LM5575
designator U?
Mft_Typ1: *; Mft_Typ2: *; Mft_Typ3: *; Price1: *; Price2: *; Price3: *; Supplier2: *; Supplier3: *; Reference1: *; Reference2: *; Reference3: *; Value: LM5575
footprint TSSOP16EP
pins: 1, 2 SHDN, 3 Vin, 4 SYNC, 5 COMP, 6 FB, 7 RT, 8 RAMP, 9 AGND, 10 SS, 11 OUT, 12 PGND, 13 IS, 14 SW, 15 PRE, 16 BST, 17 PAD

## LM7805
designator U?
5V Voltage Regulator
footprint LM78XXTH
pins: GND (in), TAB (in), VI (in), VO (in)

## LM7805DPAK3
designator U?
Value: LM7805DPAK3
pins: 1 VI, 2 VO, 3 GND

## LM7810
designator IC?
pins: GND (in), VI (in), VO (in)

## LM7905
designator U?
pins: GND (in), TAB (in), VI (in), VO (in)

## LM13080
designator IC?
pins: 1 MINUS INPUT (in), 2 ON1, 3 PLUS INPUT (in), 4 MINUS V, 5 OUTPUT (out), 6 PLUS V, 7 ON2
text: +; -

## LM13080N
designator IC?
pins: 1 MINUS INPUT (in), 2 OUTPUT BIAS, 3 PLUS INPUT (in), 4 GROUND (in), 5 OUTPUT (out), 6 PLUS V (in), 7 INPUT BIAS
text: +; -

## LM13080P
designator IC?
pins: 1 OUTPUT (out), 2 PLUS V (in), 3 INPUT BIAS, 5 MINUS INPUT (in), 7 OUTPUT BIAS, 8 PLUS INPUT (in), 10 SIGNAL GND (in), 11 POWER GND (in)
text: +; -

## MC1408
designator IC?
pins: 1 RANGE, 2 GND, 3 VEE, 4 I/O (out), 5 D1-M (in), 6 D2 (in), 7 D3 (in), 8 D4 (in), 9 D5 (in), 10 D6 (in), 11 D7 (in), 12 D8-L (in), 13 +V, 14 +VR, 15 -VR, 16 COMP

## MCA660
designator IC?
pins: 4, 6, 7, 8, 9, 10, 13

## MCP3208
designator U?
footprint 16SOIC150
pins: 1 CH0, 2 CH1, 3 CH2, 4 CH3, 5 CH4, 6 CH5, 7 CH6, 8 CH7, 9 DGND, 10 ~{CS}/SHDN, 11 Din, 12 Dout, 13 CLK, 14 AGND, 15 VREF, 16 VDD

## MCP6001
designator U?
footprint SOT23-5
pins: 1 OUTPUT, 2 PLUS V, 3 PLUS INPUT, 4 MINUS INPUT, 5 MINUS V
1 alternate drawing of the same symbol
text: +; _

## MDA2061
designator IC?
pins: 3 UC3, 6 UC2, 7 GND, 8 ZEGAR, 9 IDENT, 10 DANE, 11 NN, 12 RESET, 13 STER, 14 UC1

## MIC5255
designator U?
footprint SOT23-5
pins: 1 Vin, 2 GND, 3 EN, 4 BYP, 5 Vout

## OPAMP
designator IC?
pins: MINUS INPUT (in), MINUS V (in), OUTPUT (out), PLUS INPUT (in), PLUS V (in)
text: +; -

## REF02
designator U?
Value: REF02
pins: 1 NC, 2 VIN, 3 NC, 4 GND(CASE), 5 TRIM, 6 VOUT, 7 NC, 8 NC
2 alternate drawings of the same symbol

## REF200
designator U?
Value: REF200
part A pins: 1 LOW, 8 HIGH
part B pins: 2 LOW, 7 HIGH
part C pins: 3 MIRR COMM, 4 MIRR OUT, 5 MIRR IN, 6 SUBSTRATE

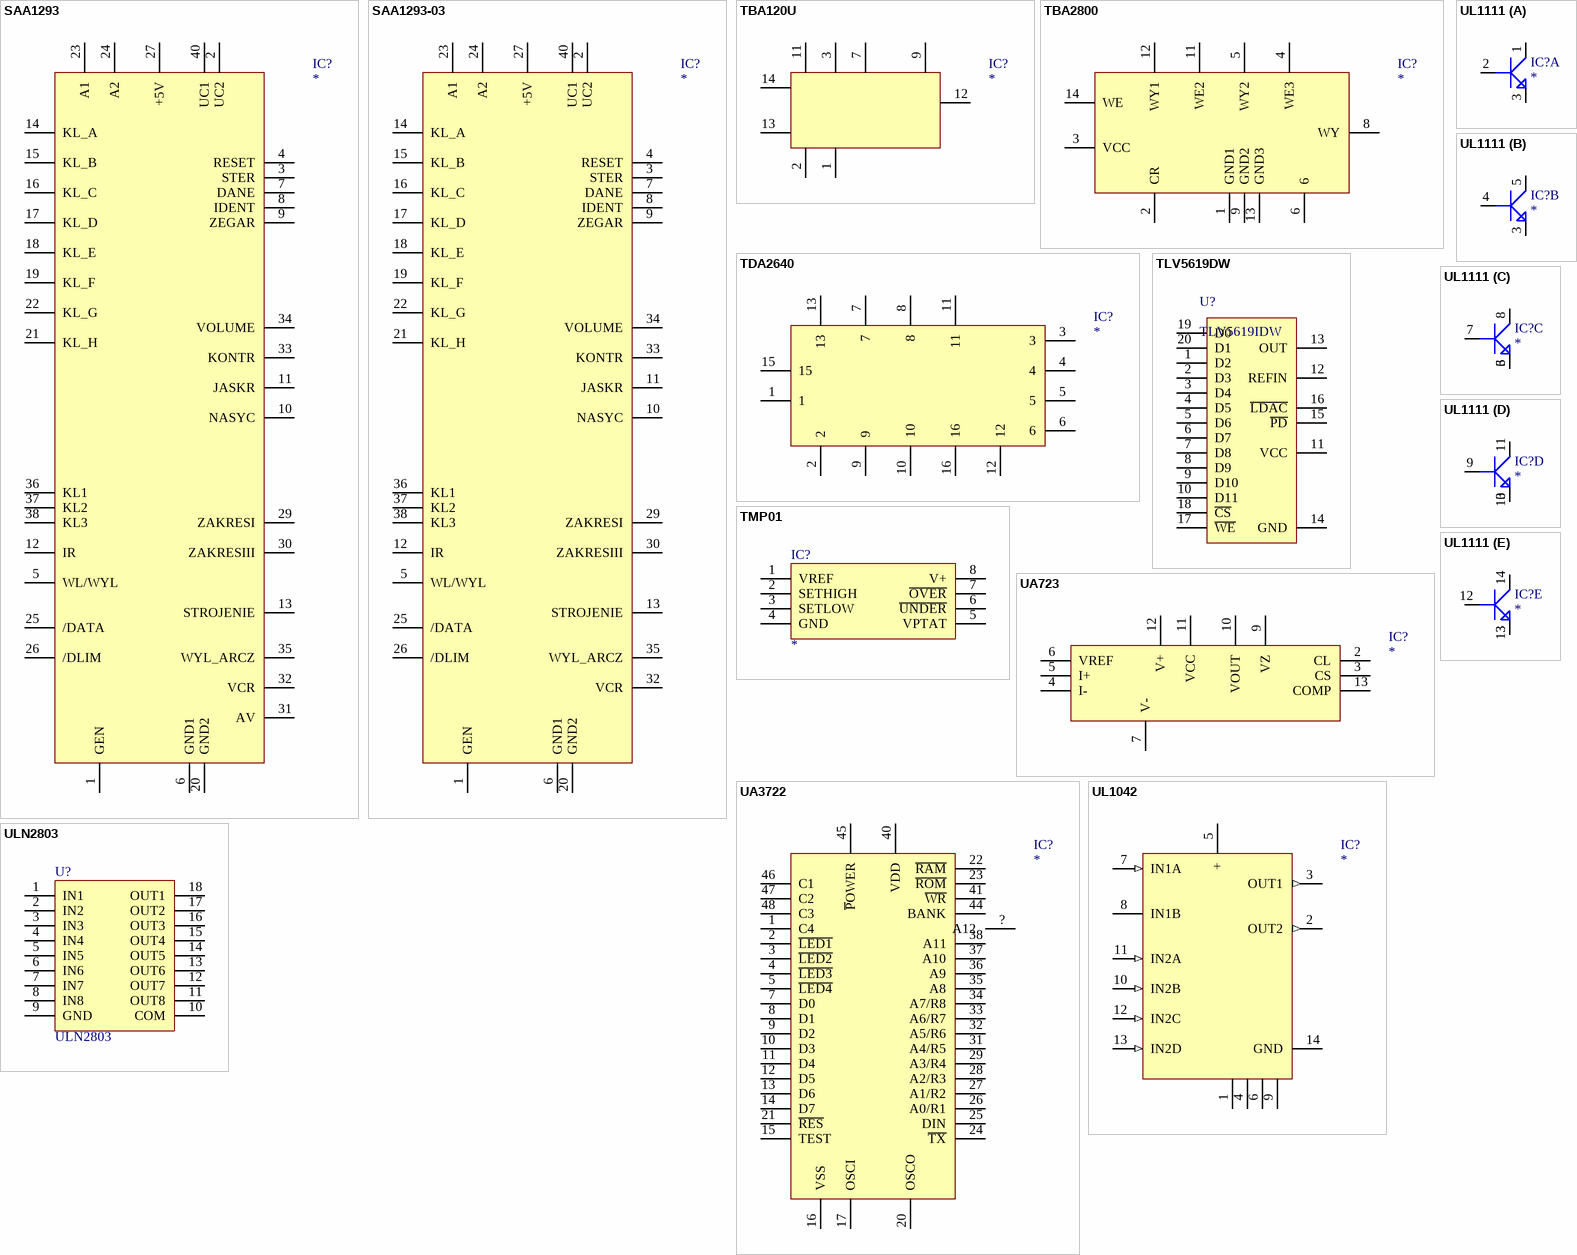
[diagram p4: symbols SAA1293 to ULN2803]

## SAA1293
designator IC?
pins: 1 GEN, 2 UC2, 3 STER, 4 RESET, 5 WL/WYL, 6 GND1, 7 DANE, 8 IDENT, 9 ZEGAR, 10 NASYC, 11 JASKR, 12 IR, 13 STROJENIE, 14 KL_A, 15 KL_B, 16 KL_C, 17 KL_D, 18 KL_E, 19 KL_F, 20 GND2, 21 KL_H, 22 KL_G, 23 A1, 24 A2, 25 /DATA, 26 /DLIM, 27 +5V, 29 ZAKRESI, 30 ZAKRESIII, 31 AV, 32 VCR, 33 KONTR, 34 VOLUME, 35 WYL_ARCZ, 36 KL1, 37 KL2, 38 KL3, 40 UC1

## SAA1293-03
designator IC?
pins: 1 GEN, 2 UC2, 3 STER, 4 RESET, 5 WL/WYL, 6 GND1, 7 DANE, 8 IDENT, 9 ZEGAR, 10 NASYC, 11 JASKR, 12 IR, 13 STROJENIE, 14 KL_A, 15 KL_B, 16 KL_C, 17 KL_D, 18 KL_E, 19 KL_F, 20 GND2, 21 KL_H, 22 KL_G, 23 A1, 24 A2, 25 /DATA, 26 /DLIM, 27 +5V, 29 ZAKRESI, 30 ZAKRESIII, 32 VCR, 33 KONTR, 34 VOLUME, 35 WYL_ARCZ, 36 KL1, 37 KL2, 38 KL3, 40 UC1

## TBA120U
designator IC?
pins: 1  , 2  , 3  , 7  , 9  , 11  , 12  , 13  , 14  

## TBA2800
designator IC?
pins: 1 GND1, 2 CR, 3 VCC, 4 WE3, 5 WY2, 6, 8 WY, 9 GND2, 11 WE2, 12 WY1, 13 GND3, 14 WE

## TDA2640
designator IC?
pins: 1, 2, 3, 4, 5, 6, 7, 8, 9, 10, 11, 12, 13, 15, 16

## TLV5619DW
designator U?, comment TLV5619IDW
Value: TLV5619IDW
pins: 1 D2, 2 D3, 3 D4, 4 D5, 5 D6, 6 D7, 7 D8, 8 D9, 9 D10, 10 D11, 11 VCC, 12 REFIN, 13 OUT, 14 GND, 15 ~{PD}, 16 ~{LDAC}, 17 ~{WE}, 18 ~{CS}, 19 D0, 20 D1

## TMP01
designator IC?
pins: 1 VREF, 2 SETHIGH, 3 SETLOW, 4 GND, 5 VPTAT, 6 ~{UNDER}, 7 ~{OVER}, 8 V+

## UA723
designator IC?
pins: 2 CL, 3 CS, 4 I-, 5 I+, 6 VREF, 7 V-, 9 VZ, 10 VOUT, 11 VCC, 12 V+, 13 COMP

## UA3722
designator IC?
pins: 1 C4, 2 ~{LED1}, 3 ~{LED2}, 4 ~{LED3}, 5 ~{LED4}, 7 D0, 8 D1, 9 D2, 10 D3, 11 D4, 12 D5, 13 D6, 14 D7, 15 TEST, 16 VSS, 17 OSCI, 20 OSCO, 21 ~{RES}, 22 ~{RAM}, 23 ~{ROM}, 24 ~{TX}, 25 DIN, 26 A0/R1, 27 A1/R2, 28 A2/R3, 29 A3/R4, 31 A4/R5, 32 A5/R6, 33 A6/R7, 34 A7/R8, 35 A8, 36 A9, 37 A10, 38 A11, 40 VDD, 41 ~{WR}, 44 BANK, 45 ~{P}OWER, 46 C1, 47 C2, 48 C3, ? A12

## UL1042
designator IC?
pins: 1  , 2 OUT2 (out), 3 OUT1 (out), 4  , 5 +, 6  , 7 IN1A (in), 8 IN1B, 9  , 10 IN2B (in), 11 IN2A (in), 12 IN2C (in), 13 IN2D (in), 14 GND

## UL1111
designator IC?
pins on every part: 3 EMIT
part A pins: 1 COLL, 2 BASE
part B pins: 4 BASE, 5 COLL
part C pins: 6 EMIT, 7 BASE, 8 COLL
part D pins: 9 BASE, 10 EMIT, 11 COLL
part E pins: 12 BASE, 13 EMIT, 14 COLL

## ULN2803
designator U?
Value: ULN2803
pins: 1 IN1, 2 IN2, 3 IN3, 4 IN4, 5 IN5, 6 IN6, 7 IN7, 8 IN8, 9 GND, 10 COM, 11 OUT8, 12 OUT7, 13 OUT6, 14 OUT5, 15 OUT4, 16 OUT3, 17 OUT2, 18 OUT1